# EAGLE library part A1392 (library added_parts)
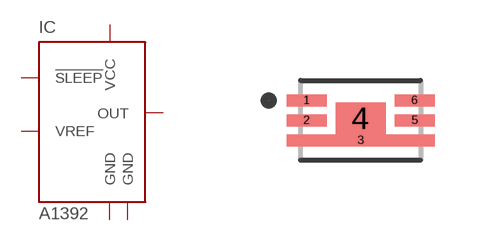
[diagram p32: symbol with the pads of DFN-6; footprint DFN-6]

Designator prefix IC

## A1392  [DFN-6]
1  VCC  pwr
2  OUT  out
3  GND  pwr
4  GND  pwr
5  !SLEEP  in
6  VREF  pas

## Footprint DFN-6 (pad centres in mm)
smd 1 x 0.3: 1 -1.35,0.5; 2 -1.35,0; 5 1.35,0; 6 1.35,0.5
smd 3.7 x 0.3: 3 0,-0.5
smd 1.25 x 0.8: 4 0,0.05